# EAGLE library part 90136-1?07 (library con-molex-c-grid)
C-Grid III
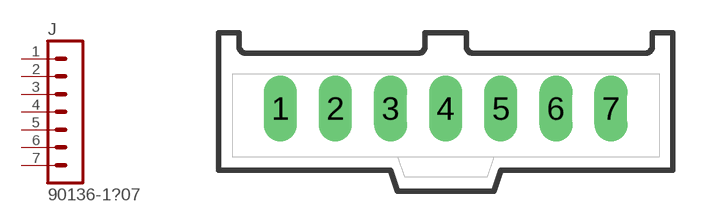
[diagram p61: symbol with the pads of 90136-1?07; footprint 90136-1?07]

Designator prefix J

## 90136-107  [90136-1?07]
1  1  pas
2  2  pas
3  3  pas
4  4  pas
5  5  pas
6  6  pas
7  7  pas

## Footprint 90136-1?07 (pad centres in mm)
C-Grid III vertical
drill 1.016 long: 1 -7.62,0; 2 -5.08,0; 3 -2.54,0; 4 0,0; 5 2.54,0; 6 5.08,0; 7 7.62,0